# EAGLE library part TESTSOC_SO28 (library stepper_drivers_etc)
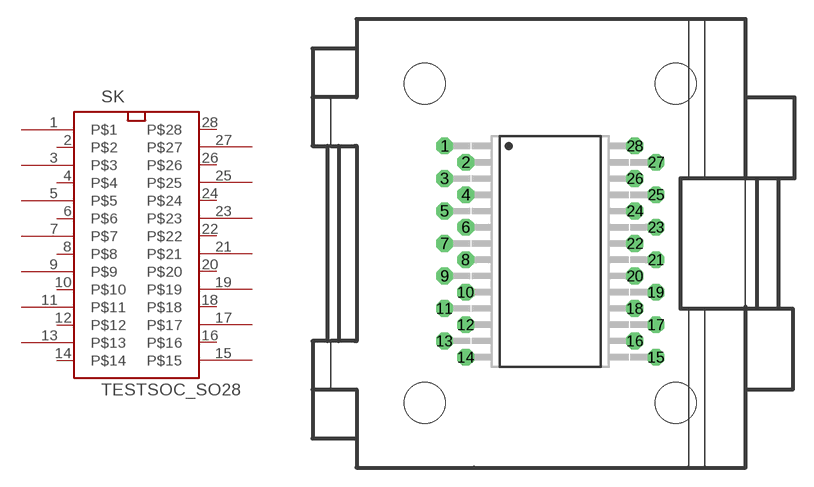
[diagram p1: symbol with the pads of SMD28TESTSOC; footprint SMD28TESTSOC]

Designator prefix SK

## TESTSOC_SO28  [SMD28TESTSOC]
1  P$1  pas
2  P$2  pas
3  P$3  pas
4  P$4  pas
5  P$5  pas
6  P$6  pas
7  P$7  pas
8  P$8  pas
9  P$9  pas
10  P$10  pas
11  P$11  pas
12  P$12  pas
13  P$13  pas
14  P$14  pas
15  P$15  pas
16  P$16  pas
17  P$17  pas
18  P$18  pas
19  P$19  pas
20  P$20  pas
21  P$21  pas
22  P$22  pas
23  P$23  pas
24  P$24  pas
25  P$25  pas
26  P$26  pas
27  P$27  pas
28  P$28  pas

## Footprint SMD28TESTSOC (pad centres in mm)
drill 0.8 octagon: 1 -8.255,7.62; 2 -6.604,6.35; 3 -8.255,5.08; 4 -6.604,3.81; 5 -8.255,2.54; 6 -6.604,1.27; 7 -8.255,0; 8 -6.604,-1.27; 9 -8.255,-2.54; 10 -6.604,-3.81; 11 -8.255,-5.08; 12 -6.604,-6.35; 13 -8.255,-7.62; 14 -6.604,-8.89; 15 8.255,-8.89; 16 6.604,-7.62; 17 8.255,-6.35; 18 6.604,-5.08; 19 8.255,-3.81; 20 6.604,-2.54; 21 8.255,-1.27; 22 6.604,0; 23 8.255,1.27; 24 6.604,2.54; 25 8.255,3.81; 26 6.604,5.08; 27 8.255,6.35; 28 6.604,7.62
hole 3.2 at -9.779,12.497
hole 3.2 at 9.779,12.497
hole 3.2 at -9.779,-12.471
hole 3.2 at 9.779,-12.471